# Altium footprint library PLCC_Sq_127P_Ctr_N.PcbLib: 24 footprints (part 2 of 2)
Each footprint in its own frame and in the unit in brackets; x right, y up, seen from the top. Pads: shape width x height; smd on the part's side, far side on the other; paste and mask are expansions set on the pad; w line width, h text height; cw(c..) or ccw(c..) is an arc to the next point about the centre after c.
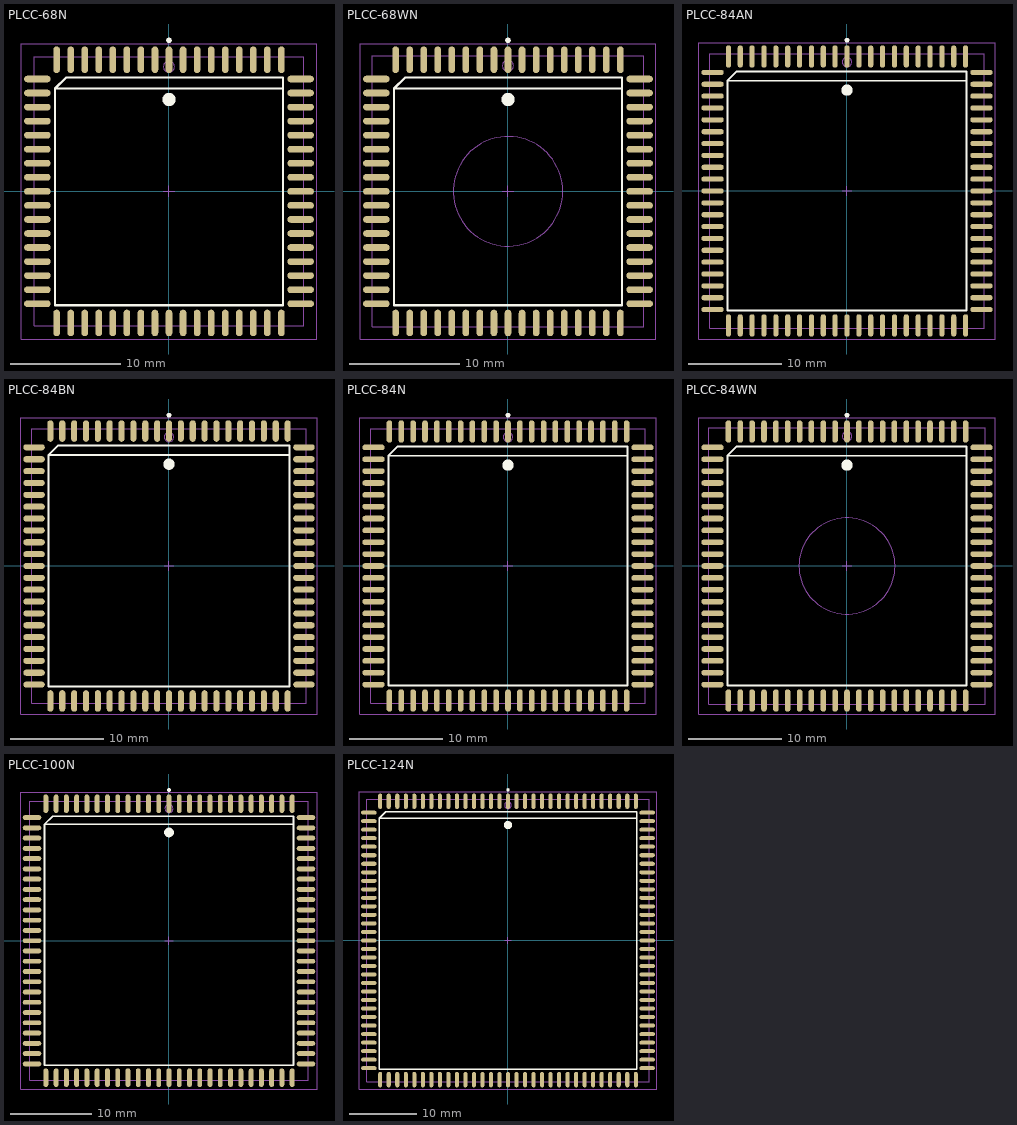
[diagram p1: the footprints below, top view; thin cyan lines are the x and y axes]

## PLCC-68N [mm] "Leaded Chip Carrier, 68-Leads, Body 24x24mm, Pitch 1.27mm, IPC Medium Density"
height 4.58
pads (68):
  oval 0.6x2.4 smd: 1(0,11.9) 2(-1.27,11.9) 3(-2.54,11.9) 4(-3.81,11.9) 5(-5.08,11.9) 6(-6.35,11.9) 7(-7.62,11.9) 8(-8.89,11.9) 9(-10.16,11.9) 27(-10.16,-11.9) 28(-8.89,-11.9) 29(-7.62,-11.9) 30(-6.35,-11.9) 31(-5.08,-11.9) 32(-3.81,-11.9) 33(-2.54,-11.9) 34(-1.27,-11.9) 35(0,-11.9) 36(1.27,-11.9) 37(2.54,-11.9) 38(3.81,-11.9) 39(5.08,-11.9) 40(6.35,-11.9) 41(7.62,-11.9) 42(8.89,-11.9) 43(10.16,-11.9) 61(10.16,11.9) 62(8.89,11.9) 63(7.62,11.9) 64(6.35,11.9) 65(5.08,11.9) 66(3.81,11.9) 67(2.54,11.9) 68(1.27,11.9)
  oval 2.4x0.6 smd: 10(-11.9,10.16) 11(-11.9,8.89) 12(-11.9,7.62) 13(-11.9,6.35) 14(-11.9,5.08) 15(-11.9,3.81) 16(-11.9,2.54) 17(-11.9,1.27) 18(-11.9,0) 19(-11.9,-1.27) 20(-11.9,-2.54) 21(-11.9,-3.81) 22(-11.9,-5.08) 23(-11.9,-6.35) 24(-11.9,-7.62) 25(-11.9,-8.89) 26(-11.9,-10.16) 44(11.9,-10.16) 45(11.9,-8.89) 46(11.9,-7.62) 47(11.9,-6.35) 48(11.9,-5.08) 49(11.9,-3.81) 50(11.9,-2.54) 51(11.9,-1.27) 52(11.9,0) 53(11.9,1.27) 54(11.9,2.54) 55(11.9,3.81) 56(11.9,5.08) 57(11.9,6.35) 58(11.9,7.62) 59(11.9,8.89) 60(11.9,10.16)
Top Overlay:
  circle w0.6: c0,8.3 r0.3
  circle w0.25: c0,13.65 r0.125
  lines w0.2: 10.3,9.3 -10.3,9.3 ; -10.3,9.3 -10.3,-10.3 10.3,-10.3 10.3,10.3 -9.3,10.3 -10.3,9.3
Mechanical 13:
  circle w0.1: c0,11.265 r0.5
  lines w0.1: -12.165,-12.165 12.165,-12.165 12.165,12.165 -12.165,12.165 -12.165,-12.165
Mechanical 15:
  lines w0.1: -0.5,0 0.5,0 ; 0,-0.5 0,0.5 ; -13.35,-13.35 13.35,-13.35 13.35,13.35 -13.35,13.35 -13.35,-13.35
3D body: height 4.58, standoff 0, extent -12.165,-12.165 12.165,12.165

## PLCC-68WN [mm] "Leaded Chip Carrier, 68-Leads, Body 24x24mm, Pitch 1.27mm, Window, IPC Medium Density"
height 4.83
pads (68):
  oval 0.6x2.4 smd: 1(0,11.9) 2(-1.27,11.9) 3(-2.54,11.9) 4(-3.81,11.9) 5(-5.08,11.9) 6(-6.35,11.9) 7(-7.62,11.9) 8(-8.89,11.9) 9(-10.16,11.9) 27(-10.16,-11.9) 28(-8.89,-11.9) 29(-7.62,-11.9) 30(-6.35,-11.9) 31(-5.08,-11.9) 32(-3.81,-11.9) 33(-2.54,-11.9) 34(-1.27,-11.9) 35(0,-11.9) 36(1.27,-11.9) 37(2.54,-11.9) 38(3.81,-11.9) 39(5.08,-11.9) 40(6.35,-11.9) 41(7.62,-11.9) 42(8.89,-11.9) 43(10.16,-11.9) 61(10.16,11.9) 62(8.89,11.9) 63(7.62,11.9) 64(6.35,11.9) 65(5.08,11.9) 66(3.81,11.9) 67(2.54,11.9) 68(1.27,11.9)
  oval 2.4x0.6 smd: 10(-11.9,10.16) 11(-11.9,8.89) 12(-11.9,7.62) 13(-11.9,6.35) 14(-11.9,5.08) 15(-11.9,3.81) 16(-11.9,2.54) 17(-11.9,1.27) 18(-11.9,0) 19(-11.9,-1.27) 20(-11.9,-2.54) 21(-11.9,-3.81) 22(-11.9,-5.08) 23(-11.9,-6.35) 24(-11.9,-7.62) 25(-11.9,-8.89) 26(-11.9,-10.16) 44(11.9,-10.16) 45(11.9,-8.89) 46(11.9,-7.62) 47(11.9,-6.35) 48(11.9,-5.08) 49(11.9,-3.81) 50(11.9,-2.54) 51(11.9,-1.27) 52(11.9,0) 53(11.9,1.27) 54(11.9,2.54) 55(11.9,3.81) 56(11.9,5.08) 57(11.9,6.35) 58(11.9,7.62) 59(11.9,8.89) 60(11.9,10.16)
Top Overlay:
  circle w0.25: c0,13.65 r0.125
  circle w0.6: c0,8.3 r0.3
  lines w0.2: 10.3,9.3 -10.3,9.3 ; -10.3,9.3 -9.3,10.3 10.3,10.3 10.3,-10.3 -10.3,-10.3 -10.3,9.3
Mechanical 13:
  circle w0.1: c0,0 r4.955
  circle w0.1: c0,11.355 r0.5
  lines w0.1: -12.255,-12.255 -12.255,12.255 12.255,12.255 12.255,-12.255 -12.255,-12.255
Mechanical 15:
  lines w0.1: -0.5,0 0.5,0 ; 0,-0.5 0,0.5 ; -13.35,-13.35 -13.35,13.35 13.35,13.35 13.35,-13.35 -13.35,-13.35
3D body: height 4.83, standoff 0.58, extent -12.254,-12.254 12.254,12.254

## PLCC-84AN [mm] "84-Pin Leaded Chip Carrier 1.27 mm Pitch"
height 5.08
pads (84):
  oval 0.55x2.4 smd: 1(0,14.4) 2(-1.27,14.4) 3(-2.54,14.4) 4(-3.81,14.4) 5(-5.08,14.4) 6(-6.35,14.4) 7(-7.62,14.4) 8(-8.89,14.4) 9(-10.16,14.4) 10(-11.43,14.4) 11(-12.7,14.4) 33(-12.7,-14.4) 34(-11.43,-14.4) 35(-10.16,-14.4) 36(-8.89,-14.4) 37(-7.62,-14.4) 38(-6.35,-14.4) 39(-5.08,-14.4) 40(-3.81,-14.4) 41(-2.54,-14.4) 42(-1.27,-14.4) 43(0,-14.4) 44(1.27,-14.4) 45(2.54,-14.4) 46(3.81,-14.4) 47(5.08,-14.4) 48(6.35,-14.4) 49(7.62,-14.4) 50(8.89,-14.4) 51(10.16,-14.4) 52(11.43,-14.4) 53(12.7,-14.4) 75(12.7,14.4) 76(11.43,14.4) 77(10.16,14.4) 78(8.89,14.4) 79(7.62,14.4) 80(6.35,14.4) 81(5.08,14.4) 82(3.81,14.4) 83(2.54,14.4) 84(1.27,14.4)
  oval 2.4x0.55 smd: 12(-14.4,12.7) 13(-14.4,11.43) 14(-14.4,10.16) 15(-14.4,8.89) 16(-14.4,7.62) 17(-14.4,6.35) 18(-14.4,5.08) 19(-14.4,3.81) 20(-14.4,2.54) 21(-14.4,1.27) 22(-14.4,0) 23(-14.4,-1.27) 24(-14.4,-2.54) 25(-14.4,-3.81) 26(-14.4,-5.08) 27(-14.4,-6.35) 28(-14.4,-7.62) 29(-14.4,-8.89) 30(-14.4,-10.16) 31(-14.4,-11.43) 32(-14.4,-12.7) 54(14.4,-12.7) 55(14.4,-11.43) 56(14.4,-10.16) 57(14.4,-8.89) 58(14.4,-7.62) 59(14.4,-6.35) 60(14.4,-5.08) 61(14.4,-3.81) 62(14.4,-2.54) 63(14.4,-1.27) 64(14.4,0) 65(14.4,1.27) 66(14.4,2.54) 67(14.4,3.81) 68(14.4,5.08) 69(14.4,6.35) 70(14.4,7.62) 71(14.4,8.89) 72(14.4,10.16) 73(14.4,11.43) 74(14.4,12.7)
Top Overlay:
  circle w0.25: c0,16.15 r0.125
  circle w0.6: c0,10.8 r0.3
  lines w0.2: 12.8,11.8 -12.8,11.8 ; -12.8,11.8 -11.8,12.8 12.8,12.8 12.8,-12.8 -12.8,-12.8 -12.8,11.8
Mechanical 13:
  circle w0.1: c0,13.805 r0.5
  lines w0.1: -14.705,-14.705 -14.705,14.705 14.705,14.705 14.705,-14.705 -14.705,-14.705
Mechanical 15:
  lines w0.1: -0.5,0 0.5,0 ; 0,-0.5 0,0.5 ; -15.85,-15.85 -15.85,15.85 15.85,15.85 15.85,-15.85 -15.85,-15.85
3D body: height 5.08, standoff 0, extent -14.705,-14.705 14.705,14.705

## PLCC-84BN [mm] "Leaded Chip Carrier, 84-Leads, Body 29.2x29.2mm, Pitch 1.27mm, IPC Medium Density"
height 4.58
pads (84):
  oval 0.65x2.3 smd: 1(0,14.45) 2(-1.27,14.45) 3(-2.54,14.45) 4(-3.81,14.45) 5(-5.08,14.45) 6(-6.35,14.45) 7(-7.62,14.45) 8(-8.89,14.45) 9(-10.16,14.45) 10(-11.43,14.45) 11(-12.7,14.45) 33(-12.7,-14.45) 34(-11.43,-14.45) 35(-10.16,-14.45) 36(-8.89,-14.45) 37(-7.62,-14.45) 38(-6.35,-14.45) 39(-5.08,-14.45) 40(-3.81,-14.45) 41(-2.54,-14.45) 42(-1.27,-14.45) 43(0,-14.45) 44(1.27,-14.45) 45(2.54,-14.45) 46(3.81,-14.45) 47(5.08,-14.45) 48(6.35,-14.45) 49(7.62,-14.45) 50(8.89,-14.45) 51(10.16,-14.45) 52(11.43,-14.45) 53(12.7,-14.45) 75(12.7,14.45) 76(11.43,14.45) 77(10.16,14.45) 78(8.89,14.45) 79(7.62,14.45) 80(6.35,14.45) 81(5.08,14.45) 82(3.81,14.45) 83(2.54,14.45) 84(1.27,14.45)
  oval 2.3x0.65 smd: 12(-14.45,12.7) 13(-14.45,11.43) 14(-14.45,10.16) 15(-14.45,8.89) 16(-14.45,7.62) 17(-14.45,6.35) 18(-14.45,5.08) 19(-14.45,3.81) 20(-14.45,2.54) 21(-14.45,1.27) 22(-14.45,0) 23(-14.45,-1.27) 24(-14.45,-2.54) 25(-14.45,-3.81) 26(-14.45,-5.08) 27(-14.45,-6.35) 28(-14.45,-7.62) 29(-14.45,-8.89) 30(-14.45,-10.16) 31(-14.45,-11.43) 32(-14.45,-12.7) 54(14.45,-12.7) 55(14.45,-11.43) 56(14.45,-10.16) 57(14.45,-8.89) 58(14.45,-7.62) 59(14.45,-6.35) 60(14.45,-5.08) 61(14.45,-3.81) 62(14.45,-2.54) 63(14.45,-1.27) 64(14.45,0) 65(14.45,1.27) 66(14.45,2.54) 67(14.45,3.81) 68(14.45,5.08) 69(14.45,6.35) 70(14.45,7.62) 71(14.45,8.89) 72(14.45,10.16) 73(14.45,11.43) 74(14.45,12.7)
Top Overlay:
  circle w0.25: c0,16.15 r0.125
  circle w0.6: c0,10.9 r0.3
  lines w0.2: 12.9,11.9 -12.9,11.9 ; -12.9,11.9 -11.9,12.9 12.9,12.9 12.9,-12.9 -12.9,-12.9 -12.9,11.9
Mechanical 13:
  circle w0.1: c0,13.805 r0.5
  lines w0.1: -14.705,-14.705 -14.705,14.705 14.705,14.705 14.705,-14.705 -14.705,-14.705
Mechanical 15:
  lines w0.1: -0.5,0 0.5,0 ; 0,-0.5 0,0.5 ; -15.85,-15.85 -15.85,15.85 15.85,15.85 15.85,-15.85 -15.85,-15.85
3D body: height 4.58, standoff 0, extent -14.705,-14.705 14.705,14.705

## PLCC-84N [mm] "Leaded Chip Carrier, 84-Leads, Body 29.3x29.3mm, Pitch 1.27mm, IPC Medium Density"
height 4.58
pads (84):
  oval 0.6x2.4 smd: 1(0,14.4) 2(-1.27,14.4) 3(-2.54,14.4) 4(-3.81,14.4) 5(-5.08,14.4) 6(-6.35,14.4) 7(-7.62,14.4) 8(-8.89,14.4) 9(-10.16,14.4) 10(-11.43,14.4) 11(-12.7,14.4) 33(-12.7,-14.4) 34(-11.43,-14.4) 35(-10.16,-14.4) 36(-8.89,-14.4) 37(-7.62,-14.4) 38(-6.35,-14.4) 39(-5.08,-14.4) 40(-3.81,-14.4) 41(-2.54,-14.4) 42(-1.27,-14.4) 43(0,-14.4) 44(1.27,-14.4) 45(2.54,-14.4) 46(3.81,-14.4) 47(5.08,-14.4) 48(6.35,-14.4) 49(7.62,-14.4) 50(8.89,-14.4) 51(10.16,-14.4) 52(11.43,-14.4) 53(12.7,-14.4) 75(12.7,14.4) 76(11.43,14.4) 77(10.16,14.4) 78(8.89,14.4) 79(7.62,14.4) 80(6.35,14.4) 81(5.08,14.4) 82(3.81,14.4) 83(2.54,14.4) 84(1.27,14.4)
  oval 2.4x0.6 smd: 12(-14.4,12.7) 13(-14.4,11.43) 14(-14.4,10.16) 15(-14.4,8.89) 16(-14.4,7.62) 17(-14.4,6.35) 18(-14.4,5.08) 19(-14.4,3.81) 20(-14.4,2.54) 21(-14.4,1.27) 22(-14.4,0) 23(-14.4,-1.27) 24(-14.4,-2.54) 25(-14.4,-3.81) 26(-14.4,-5.08) 27(-14.4,-6.35) 28(-14.4,-7.62) 29(-14.4,-8.89) 30(-14.4,-10.16) 31(-14.4,-11.43) 32(-14.4,-12.7) 54(14.4,-12.7) 55(14.4,-11.43) 56(14.4,-10.16) 57(14.4,-8.89) 58(14.4,-7.62) 59(14.4,-6.35) 60(14.4,-5.08) 61(14.4,-3.81) 62(14.4,-2.54) 63(14.4,-1.27) 64(14.4,0) 65(14.4,1.27) 66(14.4,2.54) 67(14.4,3.81) 68(14.4,5.08) 69(14.4,6.35) 70(14.4,7.62) 71(14.4,8.89) 72(14.4,10.16) 73(14.4,11.43) 74(14.4,12.7)
Top Overlay:
  circle w0.25: c0,16.15 r0.125
  circle w0.6: c0,10.8 r0.3
  lines w0.2: 12.8,11.8 -12.8,11.8 ; -12.8,11.8 -11.8,12.8 12.8,12.8 12.8,-12.8 -12.8,-12.8 -12.8,11.8
Mechanical 13:
  circle w0.1: c0,13.805 r0.5
  lines w0.1: -14.705,-14.705 -14.705,14.705 14.705,14.705 14.705,-14.705 -14.705,-14.705
Mechanical 15:
  lines w0.1: -0.5,0 0.5,0 ; 0,-0.5 0,0.5 ; -15.85,-15.85 -15.85,15.85 15.85,15.85 15.85,-15.85 -15.85,-15.85
3D body: height 4.58, standoff 0, extent -14.705,-14.705 14.705,14.705

## PLCC-84WN [mm] "Leaded Chip Carrier, 84-Leads, Body 29x29mm, Pitch 1.27mm, Window, IPC Medium Density"
height 4.83
pads (84):
  oval 0.6x2.4 smd: 1(0,14.4) 2(-1.27,14.4) 3(-2.54,14.4) 4(-3.81,14.4) 5(-5.08,14.4) 6(-6.35,14.4) 7(-7.62,14.4) 8(-8.89,14.4) 9(-10.16,14.4) 10(-11.43,14.4) 11(-12.7,14.4) 33(-12.7,-14.4) 34(-11.43,-14.4) 35(-10.16,-14.4) 36(-8.89,-14.4) 37(-7.62,-14.4) 38(-6.35,-14.4) 39(-5.08,-14.4) 40(-3.81,-14.4) 41(-2.54,-14.4) 42(-1.27,-14.4) 43(0,-14.4) 44(1.27,-14.4) 45(2.54,-14.4) 46(3.81,-14.4) 47(5.08,-14.4) 48(6.35,-14.4) 49(7.62,-14.4) 50(8.89,-14.4) 51(10.16,-14.4) 52(11.43,-14.4) 53(12.7,-14.4) 75(12.7,14.4) 76(11.43,14.4) 77(10.16,14.4) 78(8.89,14.4) 79(7.62,14.4) 80(6.35,14.4) 81(5.08,14.4) 82(3.81,14.4) 83(2.54,14.4) 84(1.27,14.4)
  oval 2.4x0.6 smd: 12(-14.4,12.7) 13(-14.4,11.43) 14(-14.4,10.16) 15(-14.4,8.89) 16(-14.4,7.62) 17(-14.4,6.35) 18(-14.4,5.08) 19(-14.4,3.81) 20(-14.4,2.54) 21(-14.4,1.27) 22(-14.4,0) 23(-14.4,-1.27) 24(-14.4,-2.54) 25(-14.4,-3.81) 26(-14.4,-5.08) 27(-14.4,-6.35) 28(-14.4,-7.62) 29(-14.4,-8.89) 30(-14.4,-10.16) 31(-14.4,-11.43) 32(-14.4,-12.7) 54(14.4,-12.7) 55(14.4,-11.43) 56(14.4,-10.16) 57(14.4,-8.89) 58(14.4,-7.62) 59(14.4,-6.35) 60(14.4,-5.08) 61(14.4,-3.81) 62(14.4,-2.54) 63(14.4,-1.27) 64(14.4,0) 65(14.4,1.27) 66(14.4,2.54) 67(14.4,3.81) 68(14.4,5.08) 69(14.4,6.35) 70(14.4,7.62) 71(14.4,8.89) 72(14.4,10.16) 73(14.4,11.43) 74(14.4,12.7)
Top Overlay:
  circle w0.25: c0,16.15 r0.125
  circle w0.6: c0,10.8 r0.3
  lines w0.2: 12.8,11.8 -12.8,11.8 ; -12.8,11.8 -11.8,12.8 12.8,12.8 12.8,-12.8 -12.8,-12.8 -12.8,11.8
Mechanical 13:
  circle w0.1: c0,0 r5.15
  circle w0.1: c0,13.895 r0.5
  lines w0.1: -14.795,-14.795 14.795,-14.795 14.795,14.795 -14.795,14.795 -14.795,-14.795
Mechanical 15:
  lines w0.1: -0.5,0 0.5,0 ; 0,-0.5 0,0.5 ; -15.85,-15.85 -15.85,15.85 15.85,15.85 15.85,-15.85 -15.85,-15.85
3D body: height 4.83, standoff 0.58, extent -14.794,-14.794 14.794,14.794

## PLCC-100N [mm] "Leaded Chip Carrier, 100-Leads, Body 34.4x34.4mm, Pitch 1.27mm, IPC Medium Density"
height 5.08
pads (100):
  oval 0.6x2.3 smd: 1(0,16.95) 2(-1.27,16.95) 3(-2.54,16.95) 4(-3.81,16.95) 5(-5.08,16.95) 6(-6.35,16.95) 7(-7.62,16.95) 8(-8.89,16.95) 9(-10.16,16.95) 10(-11.43,16.95) 11(-12.7,16.95) 12(-13.97,16.95) 13(-15.24,16.95) 39(-15.24,-16.95) 40(-13.97,-16.95) 41(-12.7,-16.95) 42(-11.43,-16.95) 43(-10.16,-16.95) 44(-8.89,-16.95) 45(-7.62,-16.95) 46(-6.35,-16.95) 47(-5.08,-16.95) 48(-3.81,-16.95) 49(-2.54,-16.95) 50(-1.27,-16.95) 51(0,-16.95) 52(1.27,-16.95) 53(2.54,-16.95) 54(3.81,-16.95) 55(5.08,-16.95) 56(6.35,-16.95) 57(7.62,-16.95) 58(8.89,-16.95) 59(10.16,-16.95) 60(11.43,-16.95) 61(12.7,-16.95) 62(13.97,-16.95) 63(15.24,-16.95) 89(15.24,16.95) 90(13.97,16.95) 91(12.7,16.95) 92(11.43,16.95) 93(10.16,16.95) 94(8.89,16.95) 95(7.62,16.95) 96(6.35,16.95) 97(5.08,16.95) 98(3.81,16.95) 99(2.54,16.95) 100(1.27,16.95)
  oval 2.3x0.6 smd: 14(-16.95,15.24) 15(-16.95,13.97) 16(-16.95,12.7) 17(-16.95,11.43) 18(-16.95,10.16) 19(-16.95,8.89) 20(-16.95,7.62) 21(-16.95,6.35) 22(-16.95,5.08) 23(-16.95,3.81) 24(-16.95,2.54) 25(-16.95,1.27) 26(-16.95,0) 27(-16.95,-1.27) 28(-16.95,-2.54) 29(-16.95,-3.81) 30(-16.95,-5.08) 31(-16.95,-6.35) 32(-16.95,-7.62) 33(-16.95,-8.89) 34(-16.95,-10.16) 35(-16.95,-11.43) 36(-16.95,-12.7) 37(-16.95,-13.97) 38(-16.95,-15.24) 64(16.95,-15.24) 65(16.95,-13.97) 66(16.95,-12.7) 67(16.95,-11.43) 68(16.95,-10.16) 69(16.95,-8.89) 70(16.95,-7.62) 71(16.95,-6.35) 72(16.95,-5.08) 73(16.95,-3.81) 74(16.95,-2.54) 75(16.95,-1.27) 76(16.95,0) 77(16.95,1.27) 78(16.95,2.54) 79(16.95,3.81) 80(16.95,5.08) 81(16.95,6.35) 82(16.95,7.62) 83(16.95,8.89) 84(16.95,10.16) 85(16.95,11.43) 86(16.95,12.7) 87(16.95,13.97) 88(16.95,15.24)
Top Overlay:
  circle w0.6: c0,13.4 r0.3
  circle w0.25: c0,18.65 r0.125
  lines w0.2: 15.4,14.4 -15.4,14.4 ; -15.4,14.4 -15.4,-15.4 15.4,-15.4 15.4,15.4 -14.4,15.4 -15.4,14.4
Mechanical 13:
  circle w0.1: c0,16.345 r0.5
  lines w0.1: -17.245,-17.245 17.245,-17.245 17.245,17.245 -17.245,17.245 -17.245,-17.245
Mechanical 15:
  lines w0.1: -0.5,0 0.5,0 ; 0,-0.5 0,0.5 ; -18.35,-18.35 18.35,-18.35 18.35,18.35 -18.35,18.35 -18.35,-18.35
3D body: height 5.08, standoff 0, extent -17.245,-17.245 17.245,17.245

## PLCC-124N [mm] "Leaded Chip Carrier, 124-Leads, Body 42x42mm, Pitch 1.27mm, IPC Medium Density"
height 5.08
pads (124):
  oval 0.6x2.3 smd: 1(0,20.75) 2(-1.27,20.75) 3(-2.54,20.75) 4(-3.81,20.75) 5(-5.08,20.75) 6(-6.35,20.75) 7(-7.62,20.75) 8(-8.89,20.75) 9(-10.16,20.75) 10(-11.43,20.75) 11(-12.7,20.75) 12(-13.97,20.75) 13(-15.24,20.75) 14(-16.51,20.75) 15(-17.78,20.75) 16(-19.05,20.75) 48(-19.05,-20.75) 49(-17.78,-20.75) 50(-16.51,-20.75) 51(-15.24,-20.75) 52(-13.97,-20.75) 53(-12.7,-20.75) 54(-11.43,-20.75) 55(-10.16,-20.75) 56(-8.89,-20.75) 57(-7.62,-20.75) 58(-6.35,-20.75) 59(-5.08,-20.75) 60(-3.81,-20.75) 61(-2.54,-20.75) 62(-1.27,-20.75) 63(0,-20.75) 64(1.27,-20.75) 65(2.54,-20.75) 66(3.81,-20.75) 67(5.08,-20.75) 68(6.35,-20.75) 69(7.62,-20.75) 70(8.89,-20.75) 71(10.16,-20.75) 72(11.43,-20.75) 73(12.7,-20.75) 74(13.97,-20.75) 75(15.24,-20.75) 76(16.51,-20.75) 77(17.78,-20.75) 78(19.05,-20.75) 110(19.05,20.75) 111(17.78,20.75) 112(16.51,20.75) 113(15.24,20.75) 114(13.97,20.75) 115(12.7,20.75) 116(11.43,20.75) 117(10.16,20.75) 118(8.89,20.75) 119(7.62,20.75) 120(6.35,20.75) 121(5.08,20.75) 122(3.81,20.75) 123(2.54,20.75) 124(1.27,20.75)
  oval 2.3x0.6 smd: 17(-20.75,19.05) 18(-20.75,17.78) 19(-20.75,16.51) 20(-20.75,15.24) 21(-20.75,13.97) 22(-20.75,12.7) 23(-20.75,11.43) 24(-20.75,10.16) 25(-20.75,8.89) 26(-20.75,7.62) 27(-20.75,6.35) 28(-20.75,5.08) 29(-20.75,3.81) 30(-20.75,2.54) 31(-20.75,1.27) 32(-20.75,0) 33(-20.75,-1.27) 34(-20.75,-2.54) 35(-20.75,-3.81) 36(-20.75,-5.08) 37(-20.75,-6.35) 38(-20.75,-7.62) 39(-20.75,-8.89) 40(-20.75,-10.16) 41(-20.75,-11.43) 42(-20.75,-12.7) 43(-20.75,-13.97) 44(-20.75,-15.24) 45(-20.75,-16.51) 46(-20.75,-17.78) 47(-20.75,-19.05) 79(20.75,-19.05) 80(20.75,-17.78) 81(20.75,-16.51) 82(20.75,-15.24) 83(20.75,-13.97) 84(20.75,-12.7) 85(20.75,-11.43) 86(20.75,-10.16) 87(20.75,-8.89) 88(20.75,-7.62) 89(20.75,-6.35) 90(20.75,-5.08) 91(20.75,-3.81) 92(20.75,-2.54) 93(20.75,-1.27) 94(20.75,0) 95(20.75,1.27) 96(20.75,2.54) 97(20.75,3.81) 98(20.75,5.08) 99(20.75,6.35) 100(20.75,7.62) 101(20.75,8.89) 102(20.75,10.16) 103(20.75,11.43) 104(20.75,12.7) 105(20.75,13.97) 106(20.75,15.24) 107(20.75,16.51) 108(20.75,17.78) 109(20.75,19.05)
Top Overlay:
  circle w0.6: c0,17.2 r0.3
  circle w0.25: c0,22.45 r0.125
  lines w0.2: 19.2,18.2 -19.2,18.2 ; -19.2,18.2 -19.2,-19.2 19.2,-19.2 19.2,19.2 -18.2,19.2 -19.2,18.2
Mechanical 13:
  circle w0.1: c0,20.155 r0.5
  lines w0.1: -21.055,-21.055 21.055,-21.055 21.055,21.055 -21.055,21.055 -21.055,-21.055
Mechanical 15:
  lines w0.1: -0.5,0 0.5,0 ; 0,-0.5 0,0.5 ; -22.15,-22.15 22.15,-22.15 22.15,22.15 -22.15,22.15 -22.15,-22.15
3D body: height 5.08, standoff 0, extent -21.055,-21.055 21.055,21.055